# Altium footprint library Relay.PcbLib: 1 footprints
Each footprint in its own frame and in the unit in brackets; x right, y up, seen from the top. Pads: shape width x height; smd on the part's side, far side on the other; paste and mask are expansions set on the pad; w line width, h text height; cw(c..) or ccw(c..) is an arc to the next point about the centre after c.
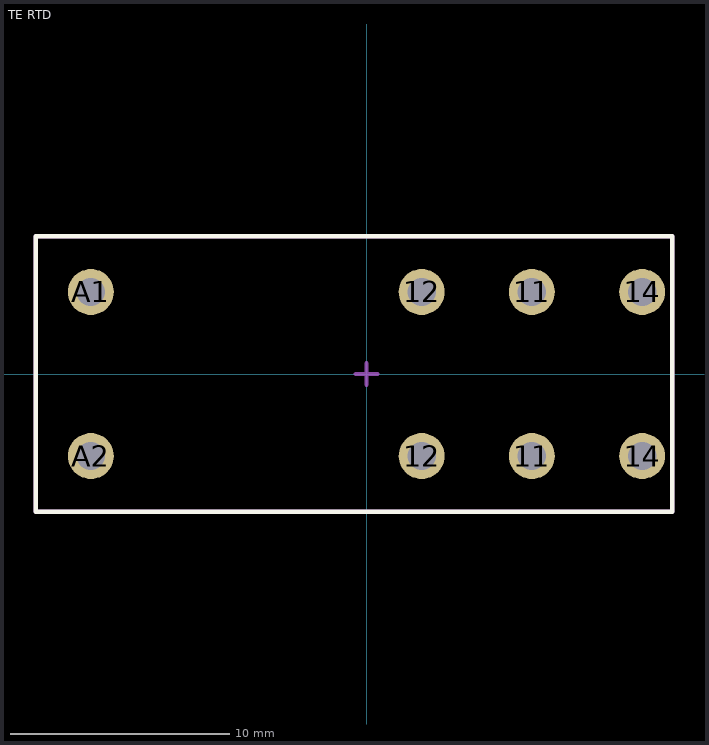
[diagram p0: the footprint, top view; thin cyan lines are the x and y axes]

## TE RTD [mm]
height 15.7
pads (8):
  round 2.1 hole 1.3: 11(7.56,-3.75) 11(7.56,3.75) 12(2.52,-3.75) 12(2.52,3.75) 14(12.6,-3.75) 14(12.6,3.75) A1(-12.6,3.75) A2(-12.6,-3.75)
Top Overlay:
  lines w0.2: -15.12,-6.3 -15.12,6.3 13.975,6.3 13.975,-6.3 -15.12,-6.3
Mechanical 15:
  lines w0.2: -0.5,0 0.5,0 ; 0,-0.5 0,0.5 ; -15.12,-6.3 13.975,-6.3 13.975,6.3 -15.12,6.3 -15.12,-6.3
3D body "TE RTD.stp": height 15.7, standoff -3.6, extent -15.13,-6.35 13.87,6.35